# Altium schematic symbol library lab03.SchLib: 6 symbols
Pins are listed as number, name and electrical type; pins without a type are passive.

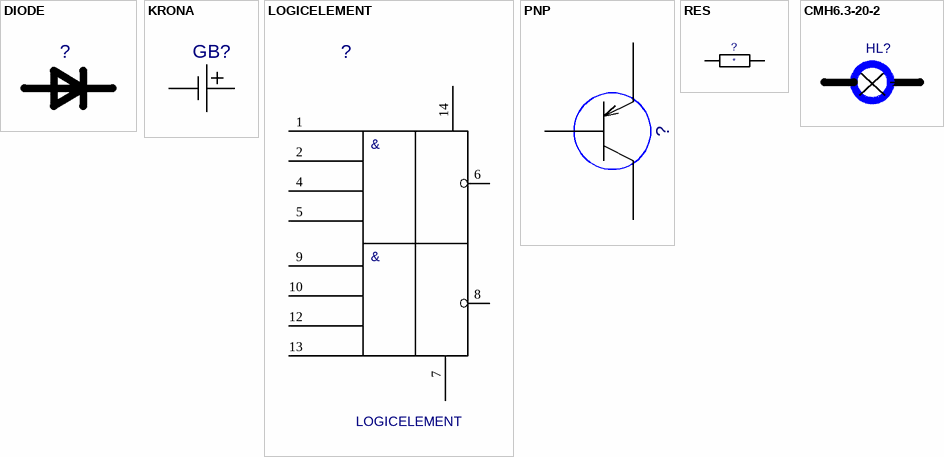
[diagram p0: symbols DIODE to СМН6.3-20-2]

## DIODE
designator ?  (value not drawn)
Value: *
footprint DIODE
pins: 1, 2

## KRONA
designator GB?  (value not drawn)
Value: *
footprint KRONA
pins: 1 hidden, 2 hidden, minus 1, plus 2

## LOGICELEMENT
designator ?
Value: *
footprint LOGICELEMENT
pins: 1 0, 2 0, 4 0, 5 0, 6 0, 7 0, 8 0, 9 0, 10 0, 12 0, 13 0, 14 0
text: &

## PNP
designator ?  (value not drawn)
Value: *
footprint KT-27 (2002)
pins: 1, 2, 3

## RES
designator ?  (value not drawn)
Value: *
footprint RES
pins: 1, 2

## СМН6.3-20-2
designator HL?  (value not drawn)
Value: *
footprint HL_MINI
pins: 1, 2